# EAGLE library part SN74CB3T3306 (library mille-feuille)
Dual FET Bus Switch 2.5-V/3.3-V Low-Voltage Bus Switch With 5-V Tolerant Level Shifter
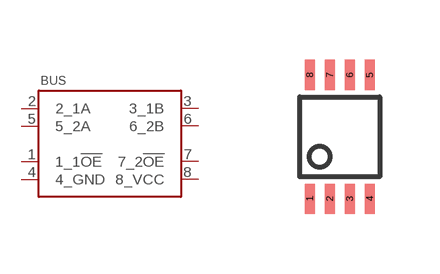
[diagram p29: symbol with the pads of VSSOP8; footprint VSSOP8]

Designator prefix BUS

## SN74CB3T3306DCU  [VSSOP8]
1  1_1!OE!
2  2_1A
3  3_1B
4  4_GND  pwr
5  5_2A
6  6_2B
7  7_2!OE!
8  8_VCC  pwr

## Footprint VSSOP8 (pad centres in mm)
smd 0.25 x 0.75: 1 -0.75,-1.55; 2 -0.25,-1.55; 3 0.25,-1.55; 4 0.75,-1.55; 5 0.75,1.55; 6 0.25,1.55; 7 -0.25,1.55; 8 -0.75,1.55